# Altium schematic symbol library ADC_SYMBOL.SchLib: 1 symbol
Pins are listed as number, name and electrical type; pins without a type are passive.

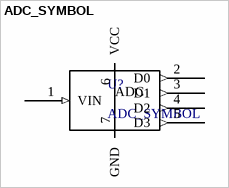
[diagram p0: symbol ADC_SYMBOL]

## ADC_SYMBOL
designator U?
ADC symbol
pins: 1 VIN (in), 2 D0 (out), 3 D1 (out), 4 D2 (out), 5 D3 (out), 6 VCC (power), 7 GND (power)
text: ADC